# EAGLE library part Q-2ND-? (library VIO_module)
MOS FET
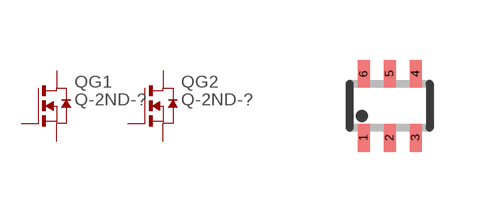
[diagram p7: symbol with the pads of SOT363; footprint SOT363]

Designator prefix Q; gates G1=Q-ND G2=Q-ND

## Q-2ND-SOT363  [SOT363]
1  G1:S  pas
2  G1:G  pas
3  G2:D  pas
4  G2:S  pas
5  G2:G  pas
6  G1:D  pas

## Footprint SOT363 (pad centres in mm)
Small Outline Transistor; 6 leads Reflow soldering INFINEON, www.infineon.com/cmc_upload/0/000/010/257/eh_db_5b.pdf
smd 0.3 x 0.7: 1 -0.65,-0.8; 2 0,-0.8; 3 0.65,-0.8; 4 0.65,0.8; 5 0,0.8; 6 -0.65,0.8